# EAGLE library part BURR-BROWN_OPA2650U (library eOscope)
Dual Wideband, Low Power Voltage Feedback Operational Amplifier
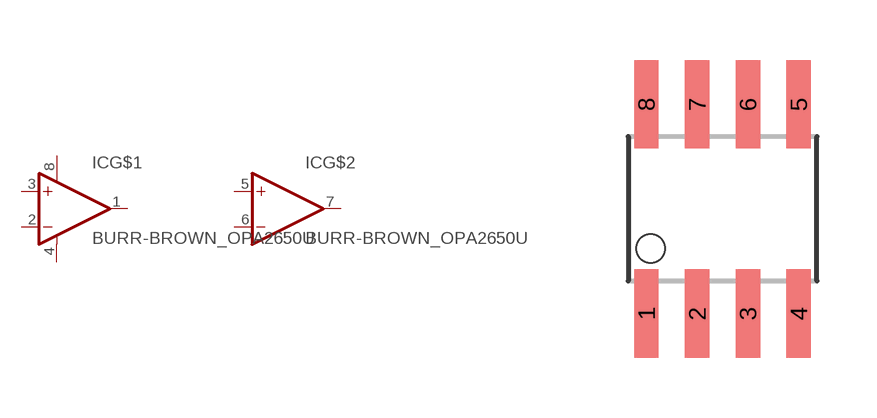
[diagram p9: symbol with the pads of BURR-BROWN_SO-08; footprint BURR-BROWN_SO-08]

Designator prefix IC; gates G$1=BURR-BROWN_OP-AMP+- G$2=BURR-BROWN_OP-AMP

## BURR-BROWN_OPA2650U  [BURR-BROWN_SO-08]
1  G$1:OUT  out
2  G$1:-IN  in
3  G$1:+IN  in
4  G$1:V-  pwr
5  G$2:+IN  in
6  G$2:-IN  in
7  G$2:OUT  out
8  G$1:V+  pwr

## Footprint BURR-BROWN_SO-08 (pad centres in mm)
smd 0.61 x 2.21: 1 -1.905,-2.616; 2 -0.635,-2.616; 3 0.635,-2.616; 4 1.905,-2.616; 5 1.905,2.616; 6 0.635,2.616; 7 -0.635,2.616; 8 -1.905,2.616